# Altium schematic symbol library SN65HVD232.Schlib: 1 symbol
Pins are listed as number, name and electrical type; pins without a type are passive.

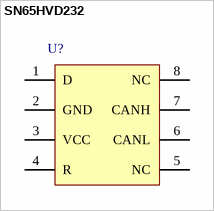
[diagram p0: symbol SN65HVD232]

## SN65HVD232
designator U?  (value not drawn)
CANbus Transceiver
pins: 1 D, 2 GND, 3 VCC, 4 R, 5 NC, 6 CANL, 7 CANH, 8 NC